# EAGLE library part DS2484 (library m_ic-comm)
DS2484 Single-Channel 1-Wire Master with Adjustable Timing and Sleep Mode Description The DS2484 is an I2C-to-1-Wire® bridge device that interfaces directly to standard (100kHz max) or fast (400kHz max) I2C masters to perform protocol conversion between the I2C master and any downstream 1-Wire slave devices. Relative to any attached 1-Wire slave device, the DS2484 is a 1-Wire master. Internal, user-adjustable timers relieve the system host processor from generating time-critical 1-Wire waveforms, supporting both standard and overdrive 1-Wire communication speeds. In addition, the 1-Wire bus can be powered down under software control. The dual-voltage operation allows different operating voltages on the I2C and 1-Wire side. Strong pullup features support 1-Wire power delivery to 1-Wire devices such as EEPROMs and sensors. When not in use, the DS2484 can be put in sleep mode where power consumption is minimal. Key Features I2C Host Interface Supports 100kHz and 400kHz I2C Communication Speeds Standard and Overdrive 1-Wire Communication Speeds Adjustable 1-Wire Timing for tRSTL, tMSP, tW0L, and tREC0 1-Wire Port Can Be Powered Down Under Software Control Supports Power-Saving Sleep Mode (SLPZ Pin), Where the 1-Wire Port is in High Impedance I2C Operating Voltages: 1.8V ±5%, 3.3V ±10%, and 5.0V +5/-10% Built-In Level Translator: 1-Wire Operating Voltage from 1.8V -5% to 5.0V +5%, Independent of I2C Voltage Built-In ESD Protection Level of ±8kV Human Body Model (HBM) Contact Discharge on IO Pin -40°C to +85°C Operating Temperature Range 8-Pin TDFN and 6-Pin SOT23 Packages Octopart Search <https://octopart.com/search?q=DS2484R*> Added 2019-11-02
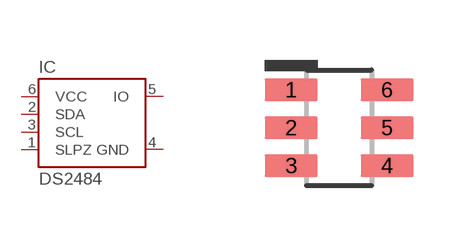
[diagram p7: symbol with the pads of SOT23-6; footprint SOT23-6]

Designator prefix IC

## DS2484R (MANUF: Maxim; PARTNUM: DS2484R*; VALUE: DS2484)  [SOT23-6]
1  SLPZ  pas
2  SDA  pas
3  SCL  pas
4  GND  pas
5  IO  pas
6  VCC  pas

## Footprint SOT23-6 (pad centres in mm)
Maxim SOT23-6 SOT 6L Land Pattern, SOT 6L Body Based on Maxim drawings 21-0058 Rev. R, 90-0175 Rev. I Added 2019-10-31
smd 1.33 x 0.56: 1 -1.2,0.95; 2 -1.2,0; 3 -1.2,-0.95; 4 1.2,-0.95; 5 1.2,0; 6 1.2,0.95